# EAGLE library part MSP340FR247 (library ti_msp430fr247)
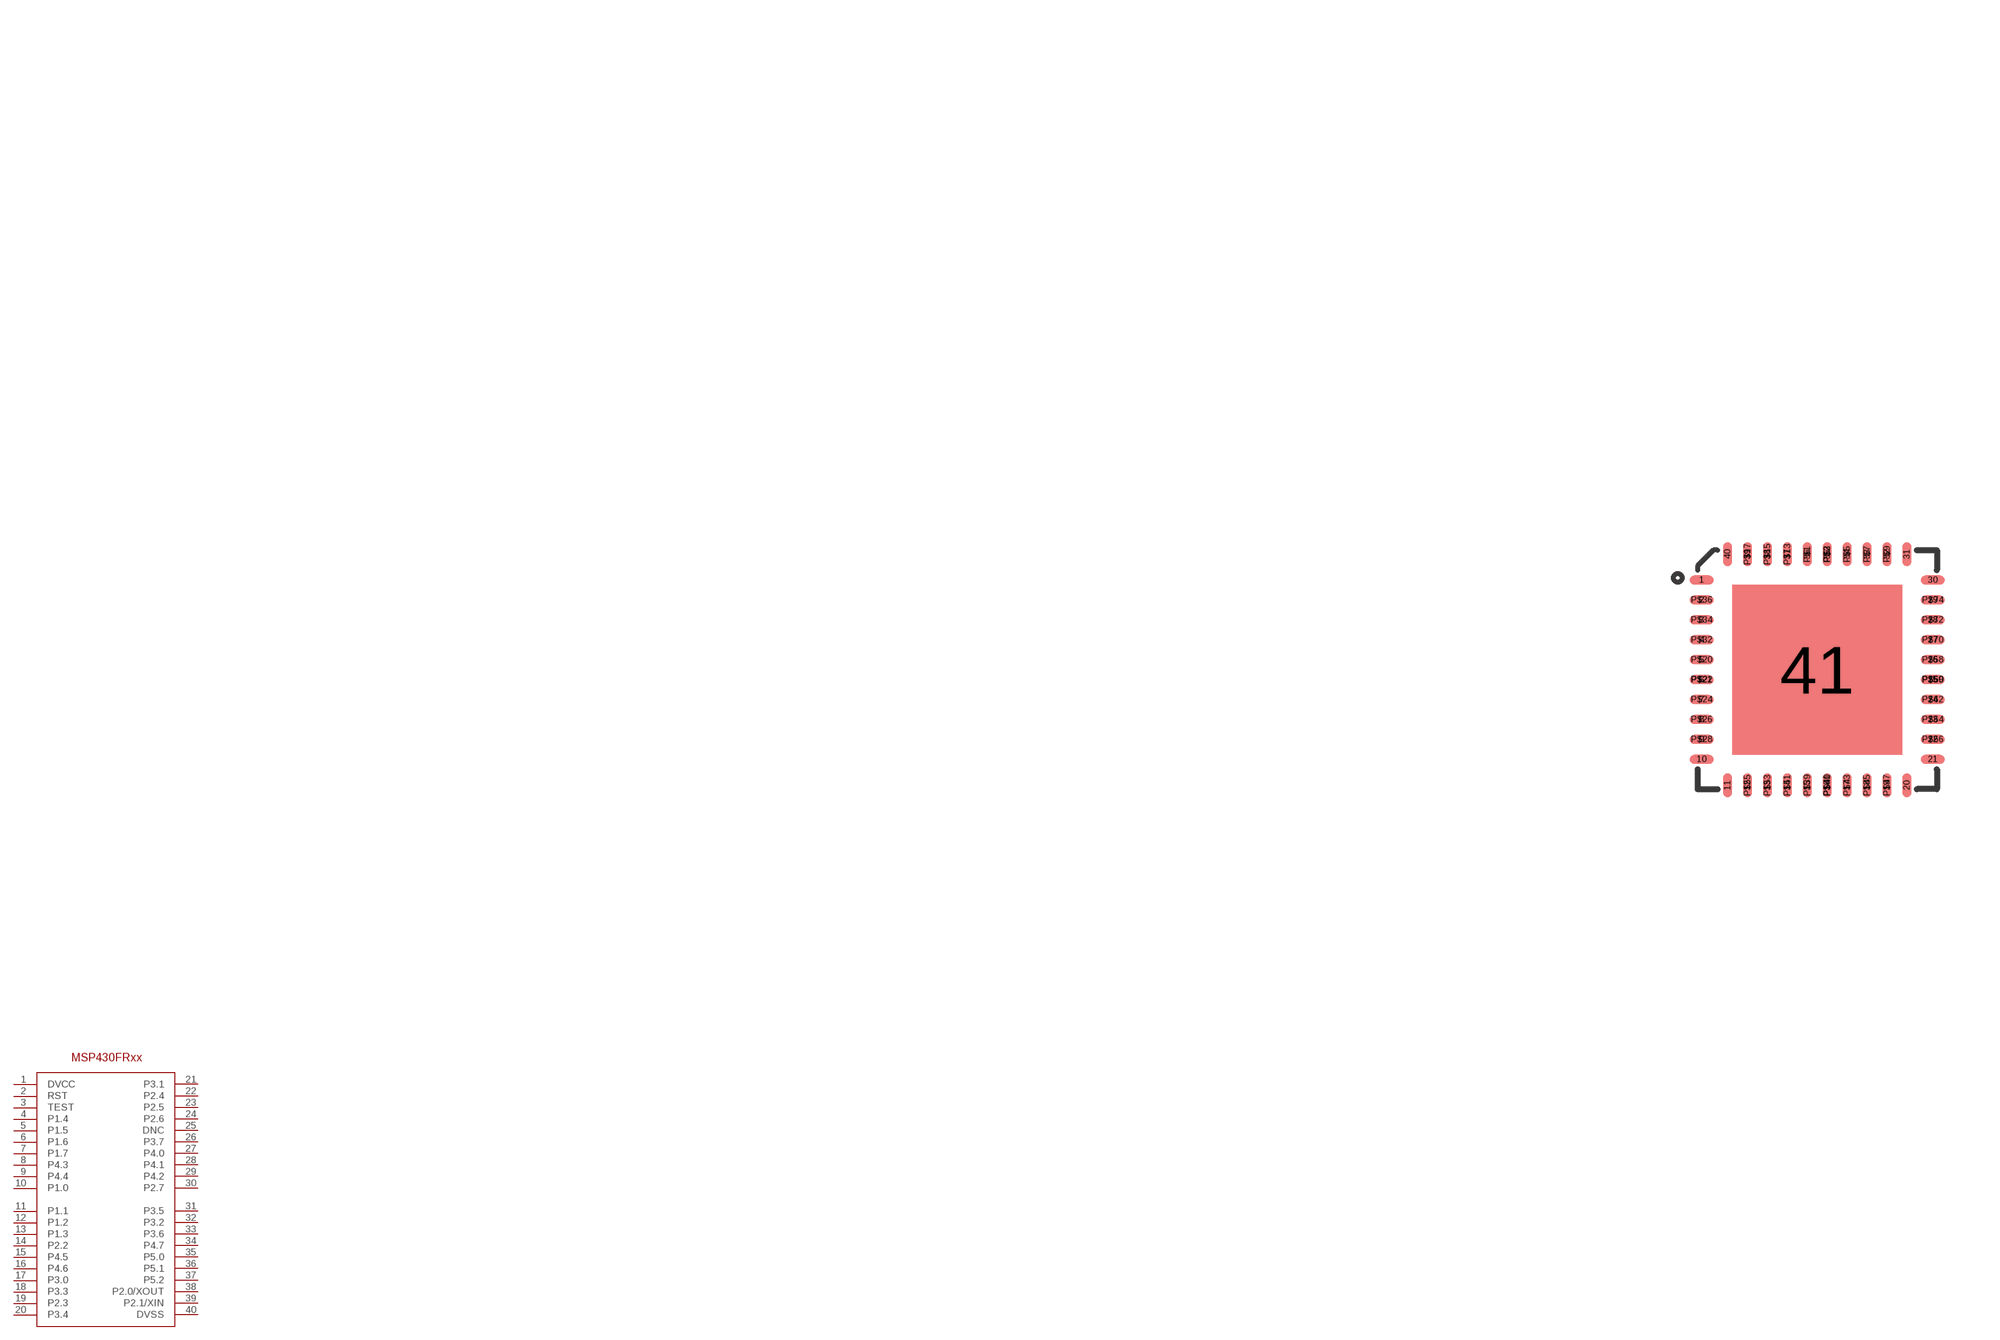
[diagram p0: symbol with the pads of QFN-40; footprint QFN-40]

Designator prefix -

## MSP340FR247  [QFN-40]
1  DVCC
2  RST
3  TEST
4  P1.4
5  P1.5
6  P1.6
7  P1.7
8  P4.3
9  P4.4
10  P1.0
11  P1.1
12  P1.2
13  P1.3
14  P2.2
15  P4.5
16  P4.6
17  P3.0
18  P3.3
19  P2.3
20  P3.4
21  P3.1
22  P2.4
23  P2.5
24  P2.6
25  DNC
26  P3.7
27  P4.0
28  P4.1
29  P4.2
30  P2.7
31  P3.5
32  P3.2
33  P3.6
34  P4.7
35  P5.0
36  P5.1
37  P5.2
38  P2.0/XOUT
39  P2.1/XIN
40  DVSS

## Footprint QFN-40 (pad centres in mm)
smd 0.6 x 0.23: 1 -2.9,2.25; 2 -2.9,1.75; 3 -2.9,1.25; 4 -2.9,0.75; 5 -2.9,0.25; 6 -2.9,-0.25; 7 -2.9,-0.75; 8 -2.9,-1.25; 9 -2.9,-1.75; 10 -2.9,-2.25; 21 2.9,-2.25; 22 2.9,-1.75; 23 2.9,-1.25; 24 2.9,-0.75; 25 2.9,-0.25; 26 2.9,0.25; 27 2.9,0.75; 28 2.9,1.25; 29 2.9,1.75; 30 2.9,2.25; P$20 -2.9,0.25; P$21 -2.9,-0.25; P$22 -2.9,-0.25; P$24 -2.9,-0.75; P$26 -2.9,-1.25; P$28 -2.9,-1.75; P$32 -2.9,0.75; P$34 -2.9,1.25; P$36 -2.9,1.75; P$58 2.9,0.25; P$59 2.9,-0.25; P$60 2.9,-0.25; P$62 2.9,-0.75; P$64 2.9,-1.25; P$66 2.9,-1.75; P$70 2.9,0.75; P$72 2.9,1.25; P$74 2.9,1.75
smd 0.23 x 0.6: 11 -2.25,-2.9; 12 -1.75,-2.9; 13 -1.25,-2.9; 14 -0.75,-2.9; 15 -0.25,-2.9; 16 0.25,-2.9; 17 0.75,-2.9; 18 1.25,-2.9; 19 1.75,-2.9; 20 2.25,-2.9; 31 2.25,2.9; 32 1.75,2.9; 33 1.25,2.9; 34 0.75,2.9; 35 0.25,2.9; 36 -0.25,2.9; 37 -0.75,2.9; 38 -1.25,2.9; 39 -1.75,2.9; 40 -2.25,2.9; P$1 -0.25,2.9; P$2 0.25,2.9; P$3 0.25,2.9; P$5 0.75,2.9; P$7 1.25,2.9; P$9 1.75,2.9; P$13 -0.75,2.9; P$15 -1.25,2.9; P$17 -1.75,2.9; P$39 -0.25,-2.9; P$40 0.25,-2.9; P$41 0.25,-2.9; P$43 0.75,-2.9; P$45 1.25,-2.9; P$47 1.75,-2.9; P$51 -0.75,-2.9; P$53 -1.25,-2.9; P$55 -1.75,-2.9
smd 4.27 x 4.27: 41 0,0